# Altium footprint library Power Module.PcbLib: 3 footprints
Each footprint in its own frame and in the unit in brackets; x right, y up, seen from the top. Pads: shape width x height; smd on the part's side, far side on the other; paste and mask are expansions set on the pad; w line width, h text height; cw(c..) or ccw(c..) is an arc to the next point about the centre after c.
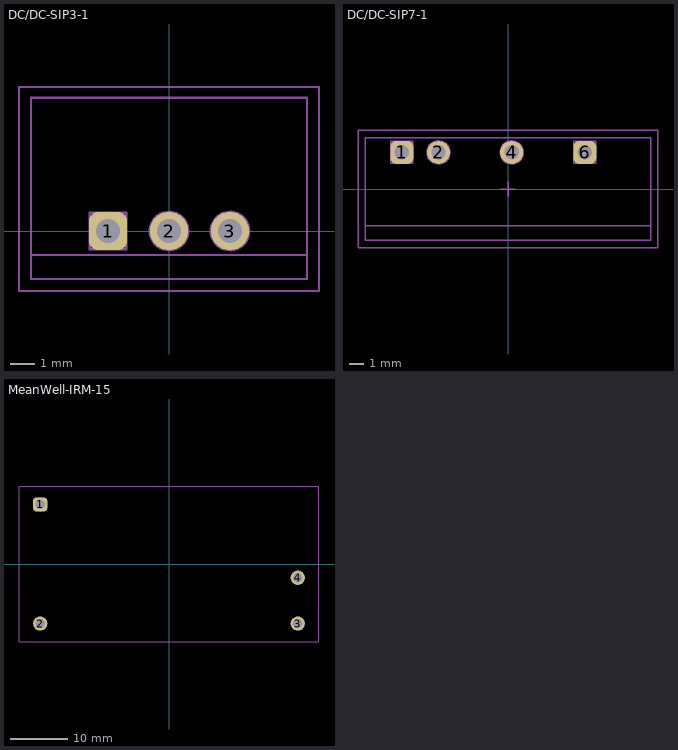
[diagram p0: the footprints below, top view; thin cyan lines are the x and y axes]

## DC/DC-SIP3-1 [mm] "DC/DC-module SIP7 single output"
height 10.14
pads (3):
  rrect50% 1.6x1.6 hole 1: 1(-2.54,0)
  round 1.6 hole 1: 2(0,0) 3(2.54,0)
Mechanical 13:
  lines w0.1: -5.75,-1 5.75,-1 ; -5.75,-2 -5.75,5.55 5.75,5.55 5.75,-2 -5.75,-2
Mechanical 14:
  circle w0.1: c2.54,0 r0.8
  circle w0.1: c0,0 r0.8
  lines w0.1: -3.302,-0.762 -1.778,-0.762 -1.778,0.762 -3.302,0.762 -3.302,-0.762
Mechanical 15:
  lines w0.1: -0.508,0 0.508,0 ; 0,-0.508 0,0.508 ; -6.25,-2.5 -6.25,6 6.25,6 6.25,-2.5 -6.25,-2.5
3D body: height 3, standoff 2, extent -4.5,-2.1 -3.5,-2
3D body: height 10.2, standoff 0, extent -5.75,-2 5.75,5.55

## DC/DC-SIP7-1 [mm] "DC/DC-module SIP7 single output"
height 10.14
pads (4):
  rrect50% 1.6x1.6 hole 1: 1(-7.366,2.54) 6(5.334,2.54)
  round 1.6 hole 1: 2(-4.826,2.54) 4(0.254,2.54)
Mechanical 13:
  lines w0.1: -9.906,-2.54 9.906,-2.54 ; -9.906,-3.556 -9.906,3.556 9.906,3.556 9.906,-3.556 -9.906,-3.556
Mechanical 14:
  circle w0.1: c-4.826,2.54 r0.8
  circle w0.1: c0.254,2.54 r0.8
  lines w0.1: -8.128,1.778 -6.604,1.778 -6.604,3.302 -8.128,3.302 -8.128,1.778 ; 4.572,1.778 6.096,1.778 6.096,3.302 4.572,3.302 4.572,1.778
Mechanical 15:
  lines w0.1: -0.508,0 0.508,0 ; 0,-0.508 0,0.508 ; -10.414,-4.064 -10.414,4.064 10.414,4.064 10.414,-4.064 -10.414,-4.064
3D body: height 10.2, standoff 0, extent -9.906,-3.556 9.906,3.556

## MeanWell-IRM-15 [mm] "15W Single Output Encapsulated Type"
height 24
pads (4):
  rrect50% 2.5x2.5 hole 1.6: 1(-22.5,10.4)
  round 2.5 hole 1.6: 2(-22.5,-10.4) 3(22.5,-10.4) 4(22.5,-2.4)
Mechanical 4:
  text ".Designator" at -10.5,2.5 h2
Mechanical 13:
  lines w0.1: -26.2,-13.6 26.2,-13.6 26.2,13.6 -26.2,13.6 -26.2,-13.6
Mechanical 14:
  circle w0.1: c22.5,-2.4 r1.03
  circle w0.1: c22.5,-10.4 r0.9
  circle w0.1: c-22.5,-10.4 r1.03
  circle w0.1: c-22.5,10.4 r1.1
3D body: height 24, standoff 0, extent -26.2,-13.6 26.2,13.6
3D body: height 24.1, standoff 24, extent -23.492,9.402 -21.5,11.398
3D body: height 24.1, standoff 24, extent -23.492,-11.398 -21.5,-9.402
3D body: height 24.1, standoff 24, extent 21.508,-11.398 23.5,-9.402
3D body: height 24.1, standoff 24, extent 21.508,-3.398 23.5,-1.402
3D body: height 24.1, standoff 24, extent -15,5 -5,10